# Altium schematic symbol library Schlib1.SchLib: 1 symbol
Pins are listed as number, name and electrical type; pins without a type are passive.

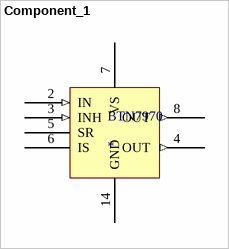
[diagram p0: symbol Component_1]

## Component_1
designator BTN7970
pins: 2 IN (in), 3 INH (in), 4 OUT (out), 5 SR, 6 IS, 7 VS (power), 8 OUT (out), 14 GND (power)